# EAGLE library part ATMEGA165P (library atmel-avr)
MICROCONTROLLER
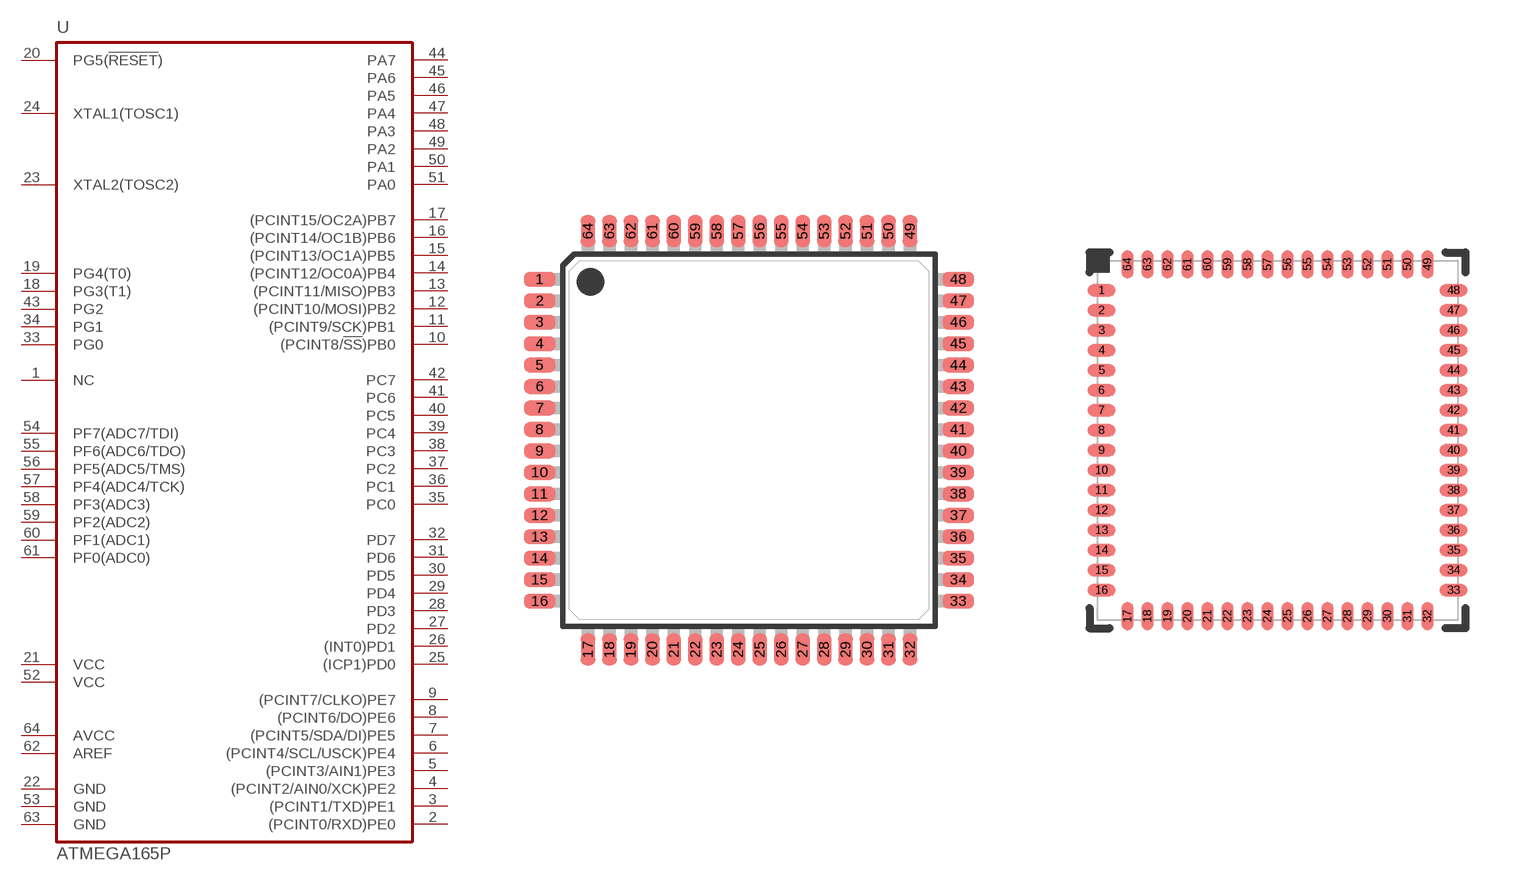
[diagram p7: symbol with the pads of TQFP64A; footprints TQFP64A, QFN64M1]

Designator prefix U

## ATMEGA165P-A  [TQFP64A]
1  NC  pas
2  (PCINT0/RXD)PE0
3  (PCINT1/TXD)PE1
4  (PCINT2/AIN0/XCK)PE2
5  (PCINT3/AIN1)PE3
6  (PCINT4/SCL/USCK)PE4
7  (PCINT5/SDA/DI)PE5
8  (PCINT6/DO)PE6
9  (PCINT7/CLKO)PE7
10  (PCINT8/!SS!)PB0
11  (PCINT9/SCK)PB1
12  (PCINT10/MOSI)PB2
13  (PCINT11/MISO)PB3
14  (PCINT12/OC0A)PB4
15  (PCINT13/OC1A)PB5
16  (PCINT14/OC1B)PB6
17  (PCINT15/OC2A)PB7
18  PG3(T1)
19  PG4(T0)
20  PG5(!RESET!)  in
21  VCC  pwr
22  GND  pwr
23  XTAL2(TOSC2)  pas
24  XTAL1(TOSC1)  pas
25  (ICP1)PD0
26  (INT0)PD1
27  PD2
28  PD3
29  PD4
30  PD5
31  PD6
32  PD7
33  PG0
34  PG1
35  PC0
36  PC1
37  PC2
38  PC3
39  PC4
40  PC5
41  PC6
42  PC7
43  PG2
44  PA7
45  PA6
46  PA5
47  PA4
48  PA3
49  PA2
50  PA1
51  PA0
52  VCC  pwr
53  GND  pwr
54  PF7(ADC7/TDI)  in
55  PF6(ADC6/TDO)  out
56  PF5(ADC5/TMS)  in
57  PF4(ADC4/TCK)  in
58  PF3(ADC3)
59  PF2(ADC2)
60  PF1(ADC1)
61  PF0(ADC0)
62  AREF  pas
63  GND  pwr
64  AVCC  pwr

## ATMEGA165P-M1  [QFN64M1]
Pads as for TQFP64A

## Footprint TQFP64A (pad centres in mm)
Thin Profile Plastic Quad Flat Package (TQFP) 64A, 64-lead, 14 x 14 mm Body Size, 1.0 mm Body Thickness, 0.8 mm Lead Pitch,
smd 1.194 x 0.559: 1 -7.8,6; 2 -7.8,5.2; 3 -7.8,4.4; 4 -7.8,3.6; 5 -7.8,2.8; 6 -7.8,2; 7 -7.8,1.2; 8 -7.8,0.4; 9 -7.8,-0.4; 10 -7.8,-1.2; 11 -7.8,-2; 12 -7.8,-2.8; 13 -7.8,-3.6; 14 -7.8,-4.4; 15 -7.8,-5.2; 16 -7.8,-6; 33 7.8,-6; 34 7.8,-5.2; 35 7.8,-4.4; 36 7.8,-3.6; 37 7.8,-2.8; 38 7.8,-2; 39 7.8,-1.2; 40 7.8,-0.4; 41 7.8,0.4; 42 7.8,1.2; 43 7.8,2; 44 7.8,2.8; 45 7.8,3.6; 46 7.8,4.4; 47 7.8,5.2; 48 7.8,6
smd 0.559 x 1.194: 17 -6,-7.8; 18 -5.2,-7.8; 19 -4.4,-7.8; 20 -3.6,-7.8; 21 -2.8,-7.8; 22 -2,-7.8; 23 -1.2,-7.8; 24 -0.4,-7.8; 25 0.4,-7.8; 26 1.2,-7.8; 27 2,-7.8; 28 2.8,-7.8; 29 3.6,-7.8; 30 4.4,-7.8; 31 5.2,-7.8; 32 6,-7.8; 49 6,7.8; 50 5.2,7.8; 51 4.4,7.8; 52 3.6,7.8; 53 2.8,7.8; 54 2,7.8; 55 1.2,7.8; 56 0.4,7.8; 57 -0.4,7.8; 58 -1.2,7.8; 59 -2,7.8; 60 -2.8,7.8; 61 -3.6,7.8; 62 -4.4,7.8; 63 -5.2,7.8; 64 -6,7.8

## Footprint QFN64M1 (pad centres in mm)
Quad Flat NoLead Package M1 (QFN) 64-pad, 9 x 9 x 1.0 mm Body, Lead Pitch 0.50 mm, 5.40 mm Exposed Pad
smd 0.7 x 0.3: 1 -4.4,3.75; 2 -4.4,3.25; 3 -4.4,2.75; 4 -4.4,2.25; 5 -4.4,1.75; 6 -4.4,1.25; 7 -4.4,0.75; 8 -4.4,0.25; 9 -4.4,-0.25; 10 -4.4,-0.75; 11 -4.4,-1.25; 12 -4.4,-1.75; 13 -4.4,-2.25; 14 -4.4,-2.75; 15 -4.4,-3.25; 16 -4.4,-3.75; 33 4.4,-3.75; 34 4.4,-3.25; 35 4.4,-2.75; 36 4.4,-2.25; 37 4.4,-1.75; 38 4.4,-1.25; 39 4.4,-0.75; 40 4.4,-0.25; 41 4.4,0.25; 42 4.4,0.75; 43 4.4,1.25; 44 4.4,1.75; 45 4.4,2.25; 46 4.4,2.75; 47 4.4,3.25; 48 4.4,3.75
smd 0.3 x 0.7: 17 -3.75,-4.4; 18 -3.25,-4.4; 19 -2.75,-4.4; 20 -2.25,-4.4; 21 -1.75,-4.4; 22 -1.25,-4.4; 23 -0.75,-4.4; 24 -0.25,-4.4; 25 0.25,-4.4; 26 0.75,-4.4; 27 1.25,-4.4; 28 1.75,-4.4; 29 2.25,-4.4; 30 2.75,-4.4; 31 3.25,-4.4; 32 3.75,-4.4; 49 3.75,4.4; 50 3.25,4.4; 51 2.75,4.4; 52 2.25,4.4; 53 1.75,4.4; 54 1.25,4.4; 55 0.75,4.4; 56 0.25,4.4; 57 -0.25,4.4; 58 -0.75,4.4; 59 -1.25,4.4; 60 -1.75,4.4; 61 -2.25,4.4; 62 -2.75,4.4; 63 -3.25,4.4; 64 -3.75,4.4